# Altium schematic symbol library 1645РУ5У.Schlib: 1 symbol
Pins are listed as number, name and electrical type; pins without a type are passive.

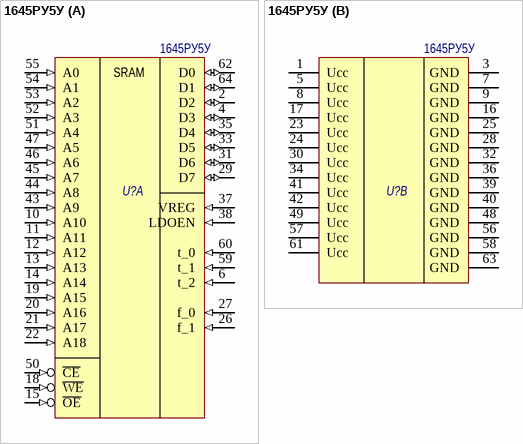
[diagram p0: symbol 1645РУ5У]

## 1645РУ5У
designator U?
Асинхронное статическое ОЗУ (512К х 8); Потребление, Вт: 0,4; Назначение: Асинхронное статическое ОЗУ (512К х 8); Наименование: 1645РУ5У
footprint 5134.64-6
part A pins: 2 D2 (io), 4 D3 (io), 6 t_2 (in), 10 A10 (in), 11 A11 (in), 12 A12 (in), 13 A13 (in), 14 A14 (in), 15 ~{OE} (in), 18 ~{WE} (in), 19 A15 (in), 20 A16 (in), 21 A17 (in), 22 A18 (in), 26 f_1 (in), 27 f_0 (in), 29 D7 (io), 31 D6 (io), 33 D5 (io), 35 D4 (io), 37 VREG (in), 38 LDOEN (in), 43 A9 (in), 44 A8 (in), 45 A7 (in), 46 A6 (in), 47 A5 (in), 50 ~{CE} (in), 51 A4 (in), 52 A3 (in), 53 A2 (in), 54 A1 (in), 55 A0 (in), 59 t_1 (in), 60 t_0 (in), 62 D0 (io), 64 D1 (io)
part B pins: 1 Ucc (power), 3 GND (power), 5 Ucc (power), 7 GND (power), 8 Ucc (power), 9 GND (power), 16 GND (power), 17 Ucc (power), 23 Ucc (power), 24 Ucc (power), 25 GND (power), 28 GND (power), 30 Ucc (power), 32 GND (power), 34 Ucc (power), 36 GND (power), 39 GND (power), 40 GND (power), 41 Ucc (power), 42 Ucc (power), 48 GND (power), 49 Ucc (power), 56 GND (power), 57 Ucc (power), 58 GND (power), 61 Ucc (power), 63 GND (power)
part A text: SRAM